# EAGLE library part 10P10C-MODULAR-JACK* (library kmarx1)
10-pin Modular Jack
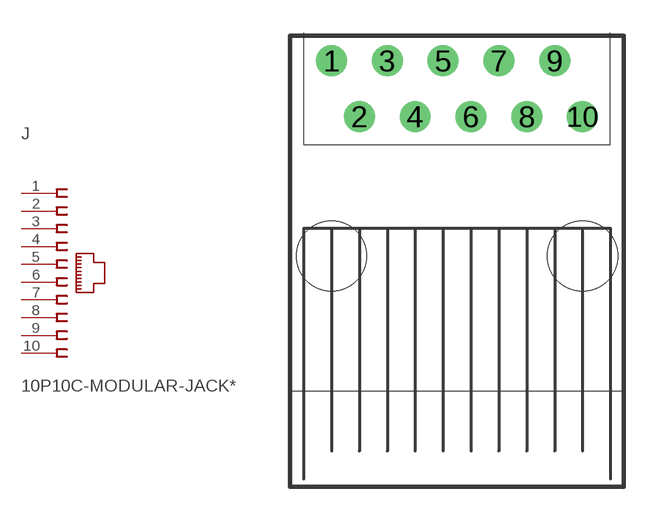
[diagram p5: symbol with the pads of POWERDYNAMICS-PJ-10P10C-1-03BX; footprint POWERDYNAMICS-PJ-10P10C-1-03BX]

Designator prefix J

## 10P10C-MODULAR-JACK  [POWERDYNAMICS-PJ-10P10C-1-03BX]
1  1  pas
2  2  pas
3  3  pas
4  4  pas
5  5  pas
6  6  pas
7  7  pas
8  8  pas
9  9  pas
10  10  pas

## Footprint POWERDYNAMICS-PJ-10P10C-1-03BX (pad centres in mm)
Package Power Dynamics PJ-10P10C-1-03BX
drill 0.9 round: 1 -5.08,7.62; 2 -3.81,5.08; 3 -2.54,7.62; 4 -1.27,5.08; 5 0,7.62; 6 1.27,5.08; 7 2.54,7.62; 8 3.81,5.08; 9 5.08,7.62; 10 6.35,5.08
hole 3.2 at -5.08,-1.27
hole 3.2 at 6.35,-1.27